# Altium footprint library Logo.PcbLib: 46 footprints (part 1 of 3)
Each footprint in its own frame and in the unit in brackets; x right, y up, seen from the top. Pads: shape width x height; smd on the part's side, far side on the other; paste and mask are expansions set on the pad; w line width, h text height; cw(c..) or ccw(c..) is an arc to the next point about the centre after c.
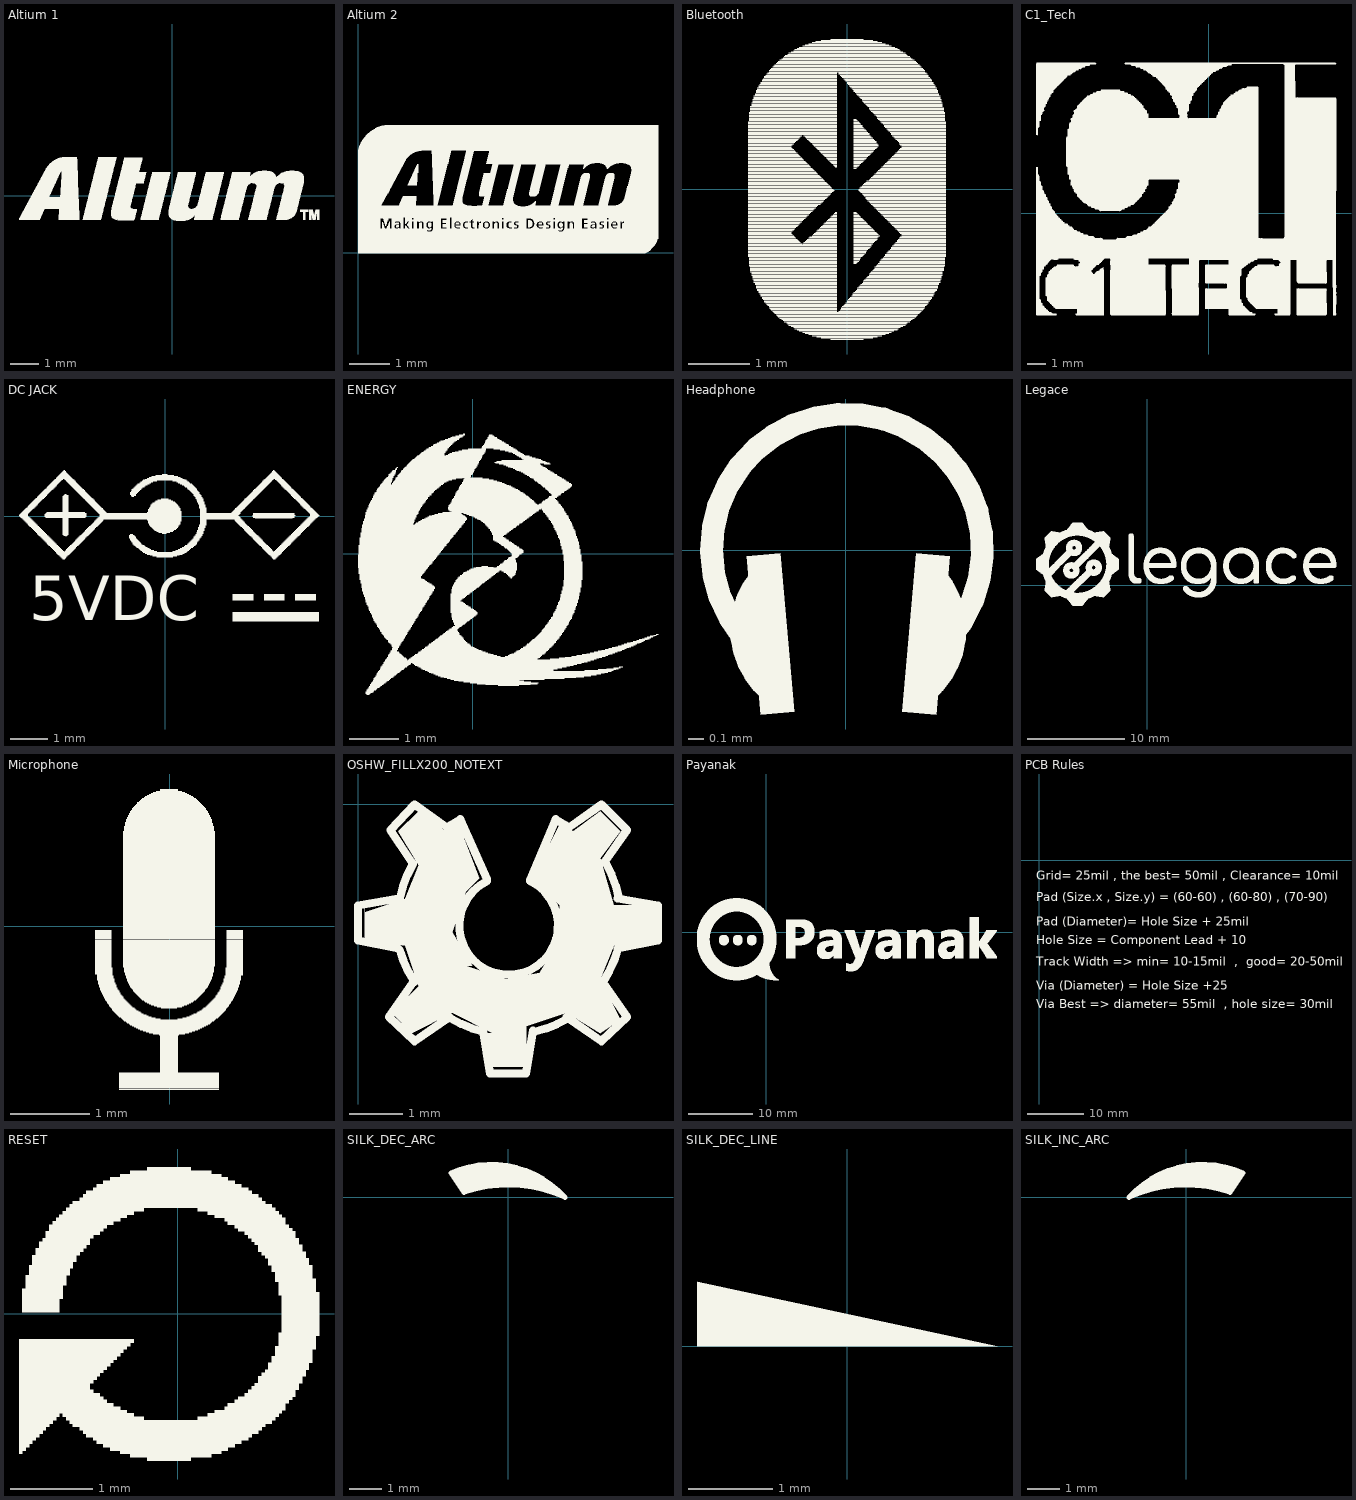
[diagram p0: the footprints below, top view; thin cyan lines are the x and y axes]

## Altium 1 [mil]
Top Overlay:
  drawing of 8 lines, arcs and shapes, not listed

## Altium 2 [mil]
Top Overlay:
  drawing of 1775 lines, arcs and shapes, not listed

## Bluetooth [mil]
Top Overlay:
  drawing of 609 lines, arcs and shapes, not listed

## C1_Tech [mil]
Top Overlay:
  drawing of 3 lines, arcs and shapes, not listed

## DC JACK [mil]
Top Overlay:
  drawing of 558 lines, arcs and shapes, not listed
  text "5VDC" at -143,-125 h80

## ENERGY [mil]
Top Overlay:
  drawing of 865 lines, arcs and shapes, not listed

## Headphone [mil]
Top Overlay:
  region: 14.81,-42.56 23.78,-43.34 27.44,-1.5 18.48,-0.72
  region: -17.16,-0.72 -26.12,-1.5 -22.46,-43.34 -13.5,-42.56
  lines w6: -27.26,-22.33 cw(c0.31,0.19) 26.99,-23.38
  lines w8: -21.68,-8 ccw(c-6.36,-20.86) -18.68,-36.61 ; 20,-36.61 ccw(c7.68,-20.86) 23,-8

## Legace [mil]
Top Overlay:
  drawing of 2455 lines, arcs and shapes, not listed

## Microphone [mil]
Top Overlay:
  drawing of 467 lines, arcs and shapes, not listed

## OSHW_FILLX200_NOTEXT [mil] "OSHW_FILLX200_NOTEXT"
Top Overlay:
  region: 65,-20 45,-5 30,-20 45,-45 35,-70 5,-80 5,-75 5,-100 35,-105 45,-135 25,-155 40,-170 70,-155 100,-170 95,-170 100,-195 125,-195 125,-165 155,-155 180,-170 195,-160 180,-130 190,-105 220,-100 220,-75 190,-75 180,-40 195,-20 180,-5 160,-20 150,-15 130,-55 150,-75 150,-100 135,-125 110,-130 80,-120 85,-120 70,-95 80,-65 90,-55 75,-15
  lines w6: 30,-107 0,-101 0,-75 30,-70 ; 31,-108 ccw(c110.71,-85.99) 42,-132 ; 31,-70 cw(c110.97,-85.84) 41,-44 ; 40,-43 24,-19 42,0 66,-17 76,-11 96,-56 ; 41,-132 23,-158 42,-176 68,-158 ; 69,-159 ccw(c112.87,-87.51) 93,-169 ; 93,-168 98,-200 125,-200 130,-168 ; 96,-57 ccw(c112,-90) 128,-57 ; 128,-56 147,-11 157,-17 181,0 200,-19 183,-43 ; 131,-169 ccw(c112.71,-87.03) 156,-159 ; 155,-158 181,-176 200,-158 182,-132 ccw(c116.94,-87.66) 193,-108 ; 184,-43 cw(c113.76,-84.37) 194,-70 ; 193,-107 223,-101 223,-75 193,-70

## Payanak [mil]
Top Overlay:
  drawing of 3245 lines, arcs and shapes, not listed

## PCB Rules [mil]
Top Overlay:
  text "Via Best => diameter= 55mil  , hole size= 30mil" at -23,-1035 h60
  text "Via (Diameter) = Hole Size +25" at -23,-905.49 h60
  text "Track Width => min= 10-15mil  ,  good= 20-50mil" at -23,-736 h60
  text "Hole Size = Component Lead + 10" at -23,-586.5 h60
  text "Pad (Diameter)= Hole Size + 25mil" at -23,-456.99 h60
  text "Pad (Size.x , Size.y) = (60-60) , (60-80) , (70-90)" at -23,-287.5 h60
  text "Grid= 25mil , the best= 50mil , Clearance= 10mil" at -23,-138 h60

## RESET [mil]
Top Overlay:
  drawing of 1 lines, arcs and shapes, not listed

## SILK_DEC_ARC [mil]
Top Overlay:
  region: 70,0 62.7,3.08 47.7,8.21 32.3,11.92 16.61,14.19 0.79,15 -15.05,14.34 -30.75,12.21 -46.19,8.64 -53.77,6.32 -54.08,6.11 -70,30 -61.24,33.89 -42.71,38.83 -23.64,40.8 -4.5,39.77 14.25,35.75 32.14,28.85 48.72,19.23 63.6,7.14
  lines w6: -54.08,6.11 -70,30 cw(c-20.62,-81.25) 70,0 ccw(c0,-155.83) -53.77,6.32

## SILK_DEC_LINE [mil]
Top Overlay:
  region: 70,0 -70,0 -70,30

## SILK_INC_ARC [mil]
Top Overlay:
  region: -70,0 -62.7,3.08 -47.7,8.21 -32.3,11.92 -16.61,14.19 -0.79,15 15.05,14.34 30.75,12.21 46.19,8.64 53.77,6.32 54.08,6.11 70,30 61.24,33.89 42.71,38.83 23.64,40.8 4.5,39.77 -14.25,35.75 -32.14,28.85 -48.72,19.23 -63.6,7.14
  lines w6: 53.77,6.32 ccw(c0,-155.83) -70,0 cw(c20.62,-81.25) 70,30 54.08,6.11